# Altium footprint library DIP-CN  0607.PcbLib: 329 footprints (part 7 of 21)
Each footprint in its own frame and in the unit in brackets; x right, y up, seen from the top. Pads: shape width x height; smd on the part's side, far side on the other; paste and mask are expansions set on the pad; w line width, h text height; cw(c..) or ccw(c..) is an arc to the next point about the centre after c.
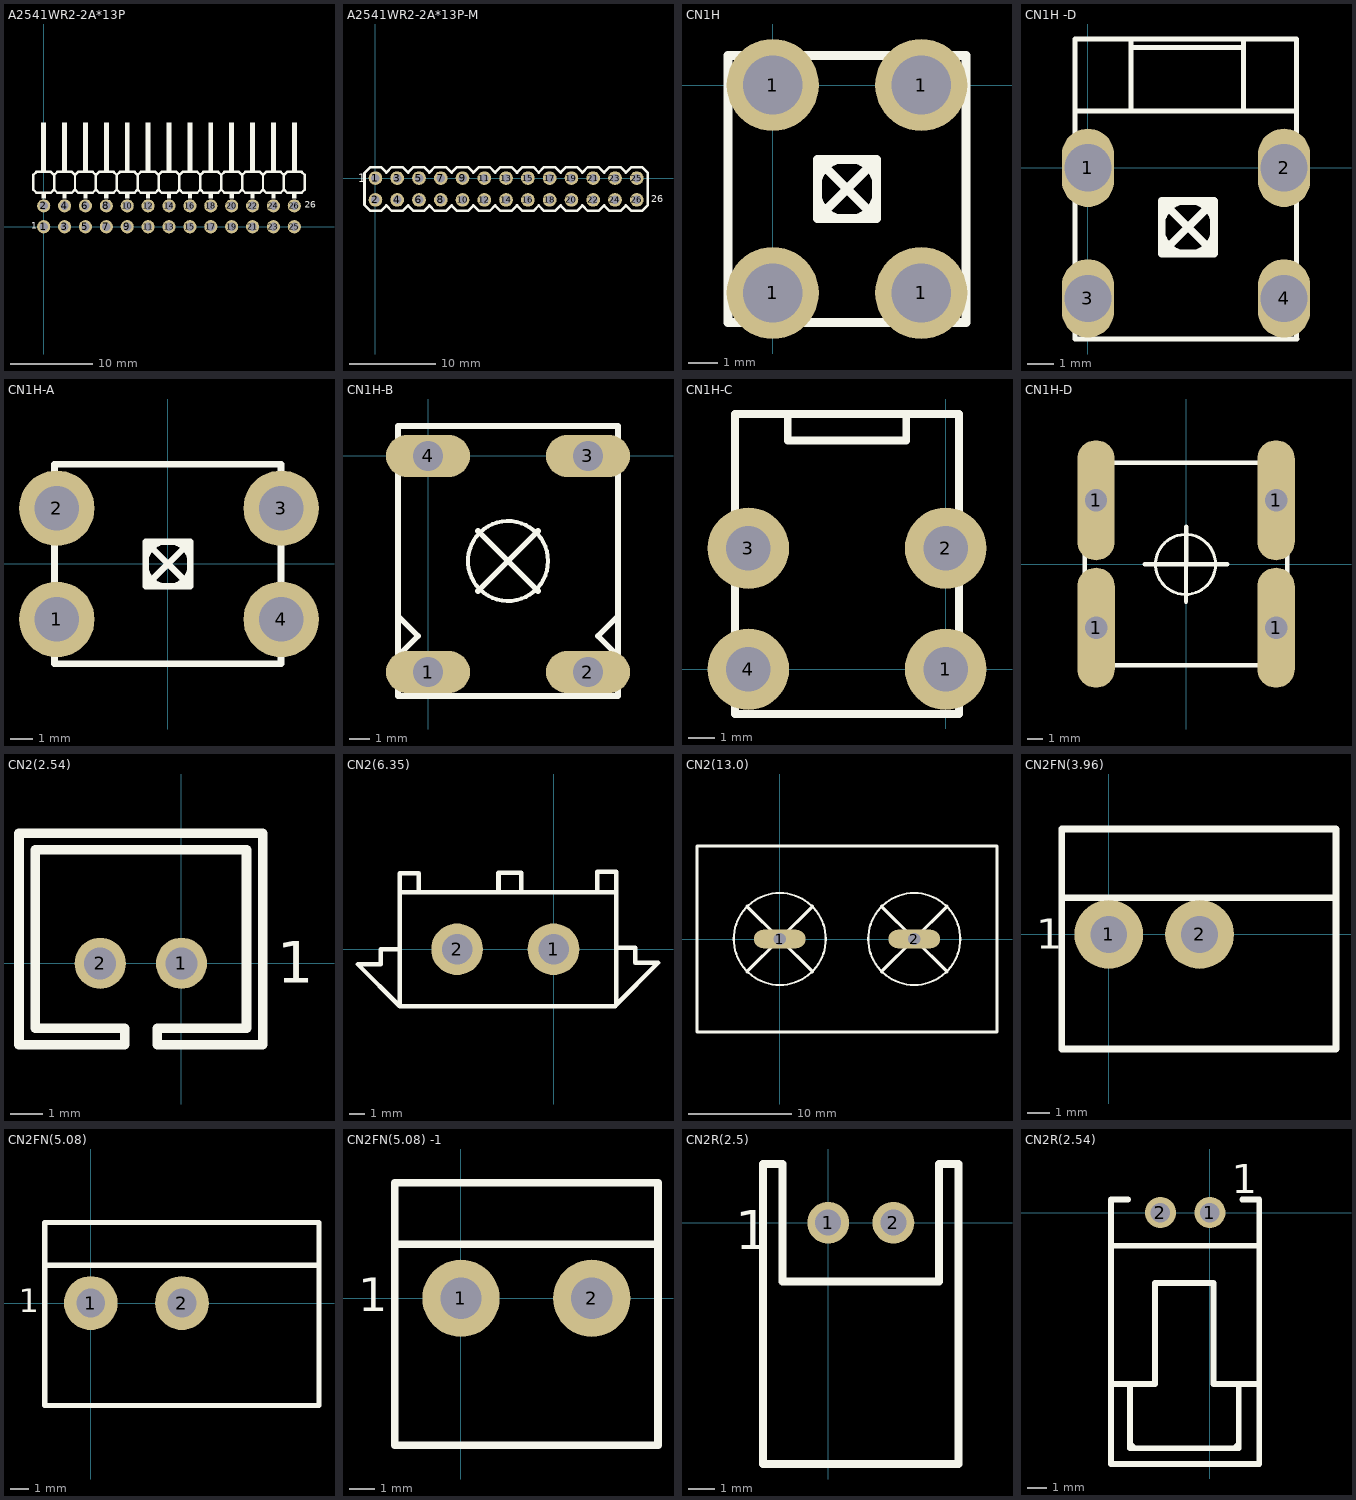
[diagram p6: the footprints below, top view; thin cyan lines are the x and y axes]

## A2541WR2-2A*13P [mm]
pads (26):
  round 1.6 hole 1: 1(0,0) 2(0,2.54) 3(2.54,0) 4(2.54,2.54) 5(5.08,0) 6(5.08,2.54) 7(7.62,0) 8(7.62,2.54) 9(10.16,0) 10(10.16,2.54) 11(12.7,0) 12(12.7,2.54) 13(15.24,0) 14(15.24,2.54) 15(17.78,0) 16(17.78,2.54) 17(20.32,0) 18(20.32,2.54) 19(22.86,0) 20(22.86,2.54) 21(25.4,0) 22(25.4,2.54) 23(27.94,0) 24(27.94,2.54) 25(30.48,0) 26(30.48,2.54)
TopOverlay:
  region: 30.78,6.68 30.78,12.68 30.18,12.68 30.18,6.68
  region: 28.24,6.68 28.24,12.68 27.64,12.68 27.64,6.68
  region: 25.7,6.68 25.7,12.68 25.1,12.68 25.1,6.68
  region: 23.16,6.68 23.16,12.68 22.56,12.68 22.56,6.68
  region: 20.62,6.68 20.62,12.68 20.02,12.68 20.02,6.68
  region: 18.08,6.68 18.08,12.68 17.48,12.68 17.48,6.68
  region: 15.54,6.68 15.54,12.68 14.94,12.68 14.94,6.68
  region: 13,6.68 13,12.68 12.4,12.68 12.4,6.68
  region: 10.46,6.68 10.46,12.68 9.86,12.68 9.86,6.68
  region: 7.92,6.68 7.92,12.68 7.32,12.68 7.32,6.68
  region: 5.38,6.68 5.38,12.68 4.78,12.68 4.78,6.68
  region: 2.84,6.68 2.84,12.68 2.24,12.68 2.24,6.68
  region: 0.3,6.68 0.3,12.68 -0.3,12.68 -0.3,6.68
  rectangle: 27.686,3.429 28.194,4.04
  rectangle: 30.226,3.429 30.734,4.04
  rectangle: 25.146,3.429 25.654,4.04
  rectangle: 22.606,3.429 23.114,4.04
  rectangle: 20.066,3.429 20.574,4.04
  rectangle: 12.446,3.429 12.954,4.04
  rectangle: 14.986,3.429 15.494,4.04
  rectangle: 17.526,3.429 18.034,4.04
  rectangle: 4.826,3.429 5.334,4.04
  rectangle: 2.286,3.429 2.794,4.04
  rectangle: -0.254,3.429 0.254,4.04
  rectangle: 7.366,3.429 7.874,4.04
  rectangle: 9.906,3.429 10.414,4.04
  rectangle: 12.446,3.429 12.954,4.04
  lines w0.3: 1.27,4.521 1.27,6.299 ; 1.27,4.521 0.889,4.14 -0.889,4.14 -1.27,4.521 -1.27,6.299 -0.889,6.68 0.889,6.68 1.27,6.299 ; 1.27,4.521 1.651,4.14 3.429,4.14 3.81,4.521 ; 1.27,6.299 1.651,6.68 3.429,6.68 3.81,6.299 ; 3.81,4.521 4.191,4.14 5.969,4.14 6.35,4.521 ; 3.81,4.521 3.81,6.299 ; 3.81,6.299 4.191,6.68 5.969,6.68 6.35,6.299 ; 6.35,4.521 6.731,4.14 8.509,4.14 8.89,4.521 ; 6.35,4.521 6.35,6.299 ; 6.35,6.299 6.731,6.68 8.509,6.68 8.89,6.299 ; 8.89,4.521 9.271,4.14 11.049,4.14 11.43,4.521 ; 8.89,4.521 8.89,6.299 ; 8.89,6.299 9.271,6.68 11.049,6.68 11.43,6.299 ; 11.43,4.521 11.811,4.14 13.589,4.14 13.97,4.521 ; 11.43,4.521 11.43,6.299 ; 11.43,6.299 11.811,6.68 13.589,6.68 13.97,6.299 ; 13.97,4.521 14.351,4.14 16.129,4.14 16.51,4.521 ; 13.97,4.521 13.97,6.299 ; 13.97,6.299 14.351,6.68 16.129,6.68 16.51,6.299 ; 16.51,4.521 16.891,4.14 18.669,4.14 19.05,4.521 ; 16.51,4.521 16.51,6.299 ; 16.51,6.299 16.891,6.68 18.669,6.68 19.05,6.299 ; 19.05,4.521 19.431,4.14 21.209,4.14 21.59,4.521 ; 19.05,4.521 19.05,6.299 ; 19.05,6.299 19.431,6.68 21.209,6.68 21.59,6.299 ; 21.59,4.521 21.971,4.14 23.749,4.14 24.13,4.521 ; 21.59,4.521 21.59,6.299 ; 21.59,6.299 21.971,6.68 23.749,6.68 24.13,6.299 ; 24.13,4.521 24.511,4.14 26.289,4.14 26.67,4.521 ; 24.13,4.521 24.13,6.299 ; 24.13,6.299 24.511,6.68 26.289,6.68 26.67,6.299 ; 26.67,4.521 27.051,4.14 28.829,4.14 29.21,4.521 ; 26.67,4.521 26.67,6.299 ; 26.67,6.299 27.051,6.68 28.829,6.68 29.21,6.299 ; 29.21,4.521 29.591,4.14 31.369,4.14 31.75,4.521 31.75,6.299 31.369,6.68 29.591,6.68 29.21,6.299 ; 29.21,4.521 29.21,6.299
  text "26" at 31.75,2.286 h0.8
  text "1" at -1.524,-0.254 h0.8
BottomOverlay:
  lines w0.3: -1.27,1.27 31.75,1.27 ; 1.27,-0.762 1.27,3.302 ; 3.81,-0.762 3.81,3.302 ; 6.35,-0.762 6.35,3.302 ; 8.89,-0.762 8.89,3.302 ; 11.43,-0.762 11.43,3.302 ; 13.97,-0.762 13.97,3.302 ; 16.51,-0.762 16.51,3.302 ; 19.05,-0.762 19.05,3.302 ; 21.59,-0.762 21.59,3.302 ; 24.13,-0.762 24.13,3.302 ; 26.67,-0.762 26.67,3.302 ; 29.21,-0.762 29.21,3.302

## A2541WR2-2A*13P-M [mm]
pads (26):
  round 1.6 hole 1: 1(0,0) 2(0,-2.54) 3(2.54,0) 4(2.54,-2.54) 5(5.08,0) 6(5.08,-2.54) 7(7.62,0) 8(7.62,-2.54) 9(10.16,0) 10(10.16,-2.54) 11(12.7,0) 12(12.7,-2.54) 13(15.24,0) 14(15.24,-2.54) 15(17.78,0) 16(17.78,-2.54) 17(20.32,0) 18(20.32,-2.54) 19(22.86,0) 20(22.86,-2.54) 21(25.4,0) 22(25.4,-2.54) 23(27.94,0) 24(27.94,-2.54) 25(30.48,0) 26(30.48,-2.54)
TopOverlay:
  lines w0.3: -1.27,-3.11 -1.27,0.57 -0.57,1.27 0.635,1.27 1.27,0.635 1.905,1.27 3.175,1.27 3.81,0.635 4.445,1.27 5.65,1.27 6.285,0.635 6.92,1.27 8.255,1.27 8.89,0.635 9.525,1.27 10.795,1.27 11.43,0.635 12.065,1.27 13.335,1.27 13.97,0.635 14.605,1.27 15.875,1.27 16.51,0.635 17.145,1.27 18.415,1.27 19.05,0.635 19.685,1.27 20.955,1.27 21.59,0.635 22.225,1.27 23.495,1.27 24.13,0.635 24.765,1.27 26.035,1.27 26.67,0.635 27.305,1.27 28.575,1.27 29.21,0.635 29.845,1.27 31.115,1.27 31.75,0.635 31.75,-3.175 31.115,-3.81 29.845,-3.81 29.21,-3.175 28.575,-3.81 27.305,-3.81 26.67,-3.175 26.035,-3.81 24.765,-3.81 24.13,-3.175 23.495,-3.81 22.225,-3.81 21.59,-3.175 20.955,-3.81 19.685,-3.81 19.05,-3.175 18.415,-3.81 17.145,-3.81 16.51,-3.175 15.875,-3.81 14.605,-3.81 13.97,-3.175 13.335,-3.81 12.065,-3.81 11.43,-3.175 10.795,-3.81 9.525,-3.81 8.89,-3.175 8.255,-3.81 6.92,-3.81 6.285,-3.175 5.65,-3.81 4.445,-3.81 3.81,-3.175 3.175,-3.81 1.905,-3.81 1.27,-3.175 0.635,-3.81 -0.57,-3.81 -1.27,-3.11
  text "1" at -2.032,-0.508 h1
  text "26" at 32.156,-2.794 h0.8
BottomOverlay:
  lines w0.3: -1.27,-1.27 31.75,-1.27 ; 1.27,-3.302 1.27,0.762 ; 3.81,-3.302 3.81,0.762 ; 6.35,-3.302 6.35,0.762 ; 8.89,-3.302 8.89,0.762 ; 11.43,-3.302 11.43,0.762 ; 13.97,-3.302 13.97,0.762 ; 16.51,-3.302 16.51,0.762 ; 19.05,-3.302 19.05,0.762 ; 21.59,-3.302 21.59,0.762 ; 24.13,-3.302 24.13,0.762 ; 26.67,-3.302 26.67,0.762 ; 29.21,-3.302 29.21,0.762

## CN1H [mm]
pads (4):
  round 3.1 hole 2: 1(0,-7) 1(0,0) 1(5,-7) 1(5,0)
TopOverlay:
  circle w0.203: c2.5,-3.5 r1
  lines w0.3: 1.5,-4.5 3.5,-2.5 ; 1.5,-4.5 1.5,-2.5 ; 1.5,-4.5 3.5,-4.5 ; 1.5,-2.5 3.5,-4.5 ; 1.5,-2.5 3.5,-2.5 ; 3.5,-4.5 3.5,-2.5 ; -1.5,-8 -1.5,-1.6 -1.5,1 6.5,1 6.5,-8 -1.5,-8

## CN1H -D [mm]
pads (4):
  oval 2x3 hole 1.8: 1(0,0) 2(7.5,0) 3(0,-5) 4(7.5,-5)
TopOverlay:
  circle w0.203: c3.825,-2.275 r1
  lines w0.2: 1.65,2.2 1.65,4.925 ; 1.65,4.6 5.95,4.6 ; 5.95,2.2 5.95,4.85 ; 7.975,-6.55 7.975,2.175 ; 8,-6.55 -0.5,-6.55 -0.5,2.175 ; -0.5,2.175 -0.5,4.925 7.975,4.925 7.975,2.175 ; -0.5,2.175 7.975,2.175
  lines w0.3: 2.825,-3.275 4.825,-1.275 ; 2.825,-3.275 2.825,-1.275 ; 2.825,-3.275 4.825,-3.275 ; 2.825,-1.275 4.825,-3.275 ; 2.825,-1.275 4.825,-1.275 ; 4.825,-3.275 4.825,-1.275

## CN1H-A [mm]
pads (4):
  round 3.4 hole 2: 1(-5.004,-2.492) 2(-5.005,2.508) 3(5.096,2.508) 4(5.096,-2.492)
TopOverlay:
  circle w0.203: c0.002,0.002 r1
  lines w0.3: -0.998,-0.998 1.002,1.002 ; -0.998,-0.998 -0.998,1.002 ; -0.998,-0.998 1.002,-0.998 ; -0.998,1.002 1.002,-0.998 ; -0.998,1.002 1.002,1.002 ; 1.002,-0.998 1.002,1.002 ; -5.109,-4.492 5.086,-4.492 5.086,4.488 -5.109,4.488 -5.109,-4.492

## CN1H-B [mm]
pads (4):
  oval 4.2x2.1 hole 1.5: 1(0,-10.8) 2(8,-10.8) 3(8,0) 4(0,0)
TopOverlay:
  circle w0.2: c4,-5.25 r2
  lines w0.3: -1.5,-10 -0.5,-9 -1.5,-8 ; 2.5,-6.75 5.5,-3.75 ; 2.5,-3.75 5.5,-6.75 ; 9.5,-10 8.5,-9 9.5,-8 ; -1.5,-12 9.5,-12 9.5,1.5 -1.5,1.5 -1.5,-12
DrillDrawing:
  lines w0.2: -0.65,-11.5 cw(c-0.65,-10.75) -0.65,-10 ; -0.65,-0.7 cw(c-0.65,0.05) -0.65,0.8 ; 0.65,-11.5 ccw(c0.65,-10.75) 0.65,-10 ; 0.65,-0.7 ccw(c0.65,0.05) 0.65,0.8 ; 7.35,-11.5 cw(c7.35,-10.75) 7.35,-10 ; 7.35,-0.7 cw(c7.35,0.05) 7.35,0.8 ; 8.65,-11.5 ccw(c8.65,-10.75) 8.65,-10 ; 8.65,-0.7 ccw(c8.65,0.05) 8.65,0.8
  lines w0.3: -0.65,-11.5 0.65,-11.5 ; -0.65,-10 0.65,-10 ; -0.65,-0.7 0.65,-0.7 ; -0.65,0.8 0.65,0.8 ; 7.35,-11.5 8.65,-11.5 ; 7.35,-10 8.65,-10 ; 7.35,-0.7 8.65,-0.7 ; 7.35,0.8 8.65,0.8
  text "(2.8X1.5)X4" at -1.016,-6.096 h1.3

## CN1H-C [mm]
pads (4):
  round 3.1 hole 1.7: 1(0,0) 2(0,4.6) 3(-7.5,4.6) 4(-7.5,0)
TopOverlay:
  lines w0.3: -6,9.7 -6,8.7 -1.5,8.7 -1.5,9.7 ; -8,-1.7 -8,9.7 0.5,9.7 0.5,-1.7 -8,-1.7

## CN1H-D [mm]
pads (4):
  oval 2.5x8 hole 1.5: 1(-6.002,4.273) 1(-6.002,-4.227) 1(5.998,-4.227) 1(5.998,4.273)
TopOverlay:
  circle w0.2: c-0.031,-0.006 r2
  circle w0.2: c-0.031,-0.006 r2
  lines w0.3: -2.752,0.023 2.748,0.023 ; -2.002,0.023 1.998,0.023 ; -0.002,-2.477 -0.002,2.523 ; -6.752,-6.727 6.748,-6.727 6.748,6.773 -6.752,6.773 -6.752,-6.727
DrillDrawing:
  lines w0.2: -6.752,-6.227 ccw(c-6.002,-6.227) -5.252,-6.227 ; -6.752,-2.227 cw(c-6.002,-2.227) -5.252,-2.227 ; -6.752,2.273 ccw(c-6.002,2.273) -5.252,2.273 ; -6.752,6.273 cw(c-6.002,6.273) -5.252,6.273 ; 5.248,-6.227 ccw(c5.998,-6.227) 6.748,-6.227 ; 5.248,-2.227 cw(c5.998,-2.227) 6.748,-2.227 ; 5.248,2.273 ccw(c5.998,2.273) 6.748,2.273 ; 5.248,6.273 cw(c5.998,6.273) 6.748,6.273
  lines w0.3: -6.752,-6.227 -6.752,-2.227 ; -6.752,-4.227 -5.252,-4.227 ; -6.752,2.273 -6.752,6.273 ; -6.752,4.273 -5.252,4.273 ; -6.002,-4.977 -6.002,-3.477 ; -6.002,3.523 -6.002,5.023 ; -5.252,-6.227 -5.252,-2.227 ; -5.252,2.273 -5.252,6.273 ; 5.248,-6.227 5.248,-2.227 ; 5.248,-4.227 6.748,-4.227 ; 5.248,2.273 5.248,6.273 ; 5.248,4.273 6.748,4.273 ; 5.998,-4.977 5.998,-3.477 ; 5.998,3.523 5.998,5.023 ; 6.748,-6.227 6.748,-2.227 ; 6.748,2.273 6.748,6.273
  text "(5.5X1.5)X4" at 0.748,-4.477 h1.3

## CN2(2.54) [mm]
pads (2):
  round 1.6 hole 1: 1(0,0) 2(-2.54,0)
TopOverlay:
  lines w0.3: -5.08,2.54 -5.08,4.064 2.54,4.064 2.54,2.54 ; -5.08,3.175 -5.08,-2.54 -1.778,-2.54 -1.778,-2.032 -4.572,-2.032 -4.572,2.54 ; -4.572,2.032 -4.572,3.556 2.032,3.556 2.032,2.032 ; 2.032,2.54 2.032,-2.032 -0.762,-2.032 -0.762,-2.54 2.54,-2.54 2.54,3.175
  text "1" at 3,-0.6 h1.3
  text "1" at 3,-0.6 h1.3
BottomOverlay:
  lines w0.3: -1.27,-1.009 -1.27,0.991

## CN2(6.35) [mm]
pads (2):
  round 3.4 hole 2: 1(0,0) 2(-6.35,0)
TopOverlay:
  lines w0.3: -10.125,0 -11.375,0 -11.375,-1 -11.625,-1 -12.875,-1 -10.125,-3.75 ; -8.875,3.75 -8.875,5 -10.125,5 -10.125,3.75 ; -3.625,3.75 -3.625,5.05 ; -3.525,5.05 -2.125,5.05 -2.125,3.75 -2.125,5 ; 2.875,3.85 2.875,5.1 4.125,5.1 4.125,3.85 4.125,-3.65 6.875,-0.9 5.625,-0.9 5.375,-0.9 5.375,0.1 4.125,0.1 ; 4.075,-3.75 -10.125,-3.75 ; 4.075,3.75 -10.125,3.75 ; -10.125,-3.75 -10.125,3.75

## CN2(13.0) [mm]
pads (2):
  oval 5x1.8 hole 1.2: 1(0,0) 2(13,0)
TopOverlay:
  circle w0.2: c13,0 r4.445
  circle w0.2: c0,0 r4.445
  lines w0.3: -3.175,-3.175 0,0 ; -3.175,3.175 0,0 ; 3.175,-3.175 0,0 ; 3.175,3.175 0,0 ; 9.825,-3.175 13,0 ; 9.825,3.175 13,0 ; 16.175,-3.175 13,0 ; 16.175,3.175 13,0 ; -8,-9 21,-9 21,9 -8,9 -8,-9
DrillDrawing:
  lines w0.3: -1.5,-0.5 -1.5,0.5 1.5,0.5 1.5,-0.5 -1.5,-0.5 ; 11.5,-0.5 11.5,0.5 14.5,0.5 14.5,-0.5 11.5,-0.5
  text "3.0X1.2" at -3.048,1.016 h1.3
  text "3.0X1.2" at 10.16,1.016 h1.3

## CN2FN(3.96) [mm]
pads (2):
  round 3 hole 1.6: 1(0,0) 2(3.96,0)
TopOverlay:
  lines w0.3: -2.05,1.6 9.91,1.6 ; -2.05,-5 -2.05,4.6 9.91,4.6 9.91,-5 -2.05,-5
  text "1" at -3.175,-0.635 h1.3

## CN2FN(5.08) [mm]
pads (2):
  round 3 hole 1.6: 1(0,0) 2(5.08,0)
TopOverlay:
  lines w0.3: -2.565,2.105 12.715,2.1 ; -2.572,-5.71 12.715,-5.71 12.715,4.49 -2.572,4.49 -2.572,-5.71
  text "1" at -4,-0.5 h1.3

## CN2FN(5.08) -1 [mm]
pads (2):
  round 3 hole 1.6: 1(0,0) 2(5.08,0)
TopOverlay:
  lines w0.3: -2.565,2.105 7.652,2.1 ; 7.652,-5.71 -2.572,-5.71 -2.572,4.49 7.652,4.49 ; 7.652,-5.709 7.652,4.49
  text "1" at -4,-0.5 h1.3

## CN2R(2.5) [mm]
pads (2):
  round 1.6 hole 1: 1(0,0) 2(2.5,0)
TopOverlay:
  lines w0.3: -2.5,-9.25 5,-9.25 5,2.25 4.25,2.25 4.25,-2.25 -1.75,-2.25 -1.75,2.25 -2.5,2.25 -2.5,-9.25
  text "1" at -3.556,-1.016 h1.5
BottomOverlay:
  lines w0.3: 1.27,-1.009 1.27,0.991

## CN2R(2.54) [mm]
pads (2):
  round 1.6 hole 1: 1(0,0) 2(-2.54,0)
TopOverlay:
  lines w0.2: -4.11,-11.614 ccw(c-3.61,-11.614) -3.61,-12.114 ; 0.99,-12.114 ccw(c0.99,-11.614) 1.49,-11.614
  lines w0.3: -5.08,-12.92 -5.08,0.68 -4.21,0.68 ; -5.05,-12.92 2.54,-12.92 2.54,0.68 1.67,0.68 ; -5.05,-8.814 -4.11,-8.814 ; -5.04,-1.7 2.5,-1.7 ; 2.39,-8.814 1.49,-8.814 ; -4.11,-8.814 -2.81,-8.814 -2.81,-3.614 0.19,-3.614 0.19,-8.814 1.49,-8.814 ; -4.11,-8.814 -4.11,-12.114 1.49,-12.114 1.49,-8.814
  text "1" at 1.13,1 h1.5
BottomOverlay:
  lines w0.3: -1.27,-0.813 -1.27,0.787